# Altium integrated library TI_Logic_Specialty_Logic.IntLib: 2504 symbols (part 60 of 81)
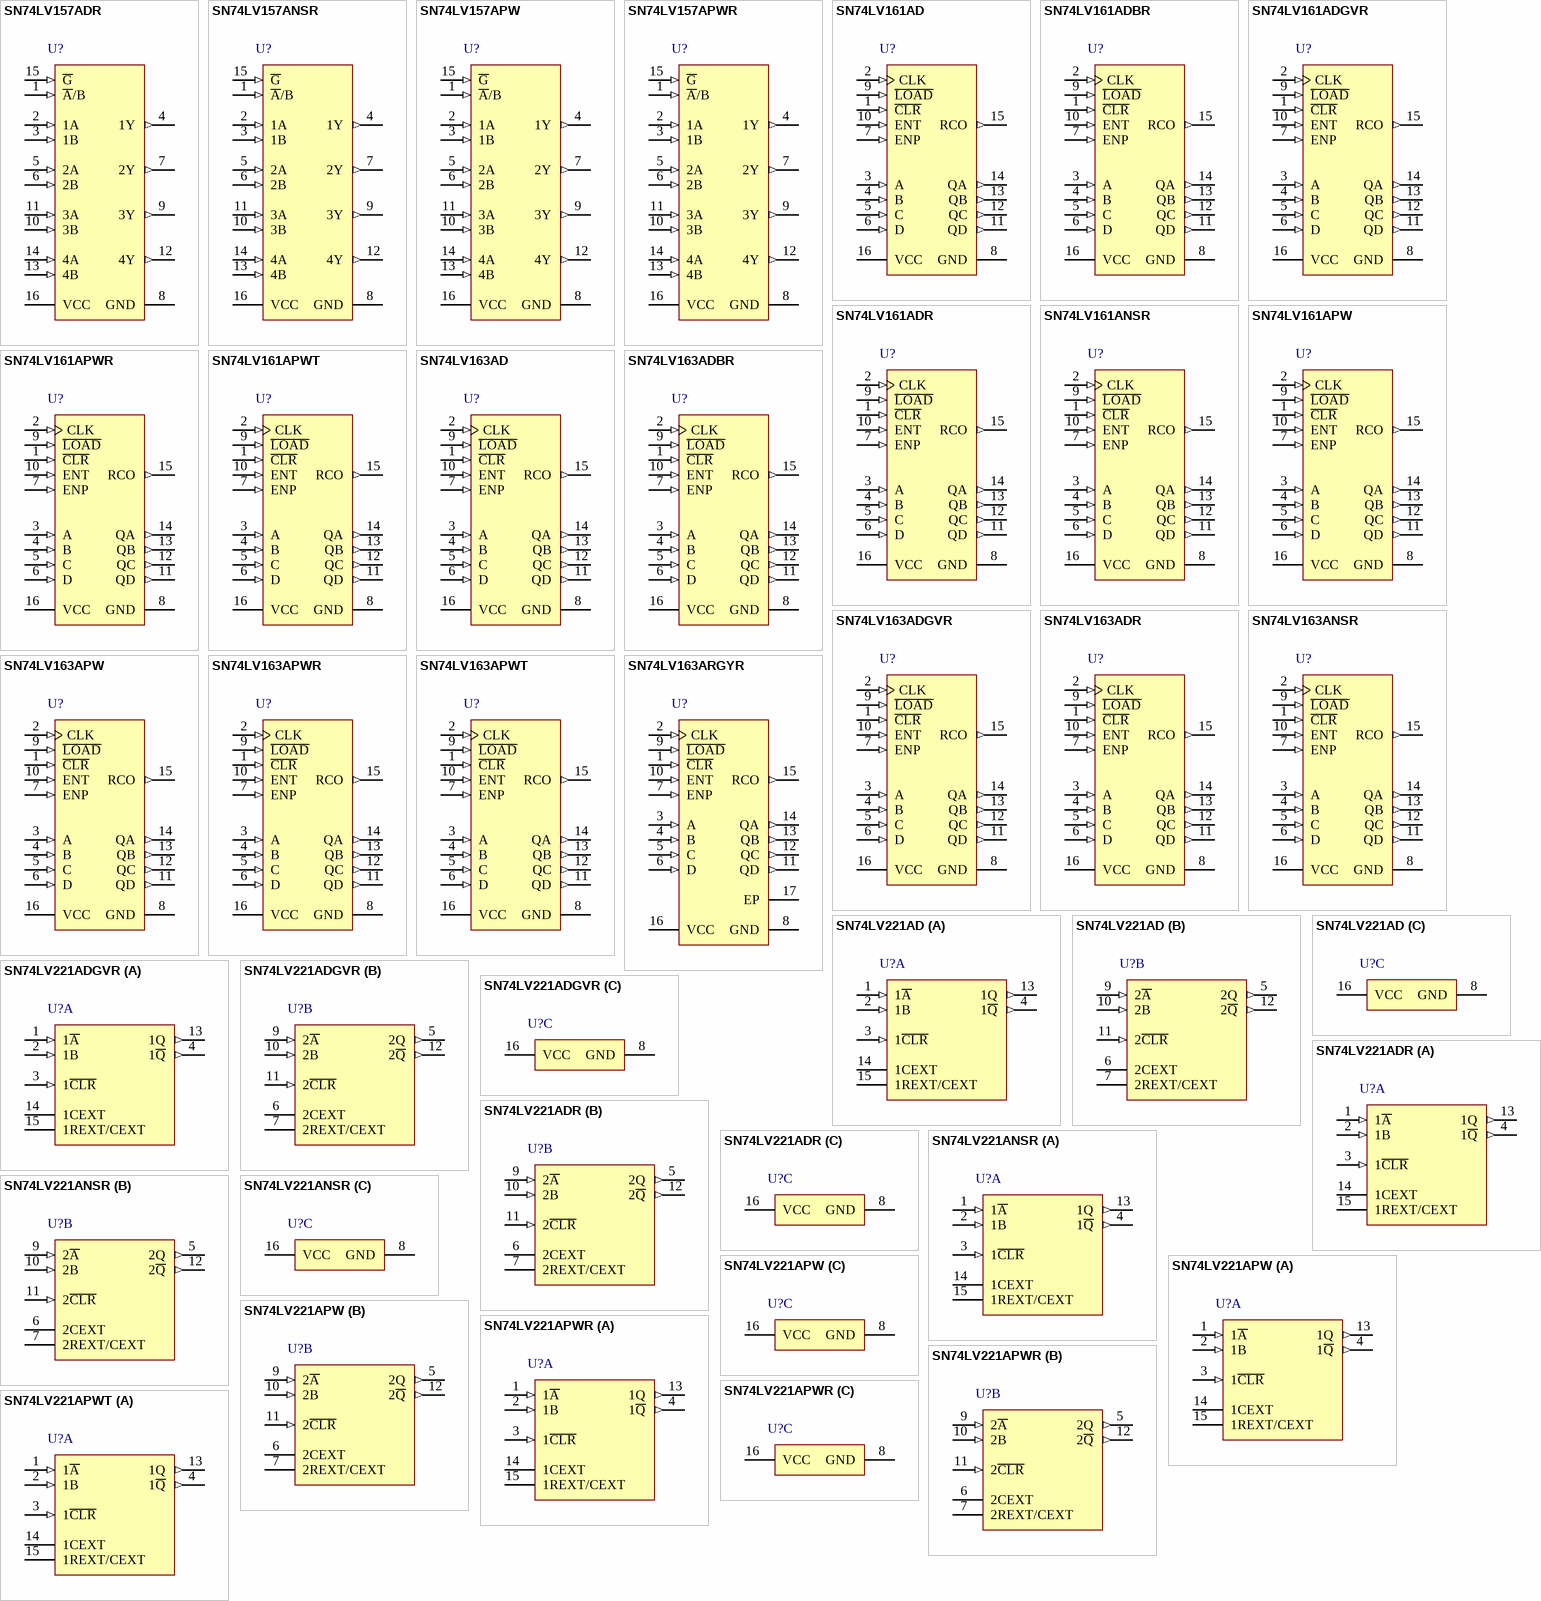
[diagram p163: symbols SN74LV157ADR to SN74LV221APWT]

## SN74LV161ADR
designator U?
4-Bit Synchronous Binary Counters, D0016A, LARGE T&R; Generic Part Number: SN74LV161A; Manufacturer: Texas Instruments; PartNumber: SN74LV161ADR; VCC(Min)(V): 2; VCC(Max)(V): 5.5; Output Type: CMOS; Inputs: 1; ICC @ Nom Voltage(Max)(mA): 0.02; Bits(#): 4; F @ Nom Voltage(Max)(Mhz): 70,115; Rating: Catalog; Technology Family: LV-A; Voltage(Nom)(V): 2.5,3.3,5; Schmitt Trigger: No; Output Drive (IOL/IOH)(Max)(mA): 12/-12; tpd @ Nom Voltage(Max)(ns): 11.5; DatasheetVersion: SCLS404F; PackageReference: D0016A; Supplier 1: Mouser; Supplier Part Number 1: 595-SN74LV161ADR; Supplier 2: Digi-Key; Supplier Part Number 2: 296-13227-2-ND; Supplier 3: Digi-Key; Supplier Part Number 3: 296-13227-1-ND; Supplier 4: Digi-Key; Supplier Part Number 4: 296-13227-6-ND; Function: Counter; Input Type: CMOS; Operating Temperature Range(C): -40 to 85; Type: Binary; Code_JEDEC: MS-012 variation AC; ComponentLink1Description: Manufacturer URL; ComponentLink1URL: http://www.ti.com/; ComponentLink2Description: Datasheet; ComponentLink2URL: http://www.ti.com/lit/ds/symlink/sn74lv161a.pdf; ComponentLink3Description: Package Specification; ComponentLink3URL: http://www.ti.com/lit/ml/mpds178g/mpds178g.pdf
footprint D0016A_N (SOIC, 16-Leads, Body 10x4mm, Pitch 1.27mm, IPC Medium Density)
footprint D0016A_M (SOIC, 16-Leads, Body 10x4mm, Pitch 1.27mm, IPC Low Density)
footprint D0016A_L (SOIC, 16-Leads, Body 10x4mm, Pitch 1.27mm, IPC High Density)
pins: 1 ~{CLR} (in), 2 CLK (in), 3 A (in), 4 B (in), 5 C (in), 6 D (in), 7 ENP (in), 8 GND (power), 9 ~{LOAD} (in), 10 ENT (in), 11 QD (out), 12 QC (out), 13 QB (out), 14 QA (out), 15 RCO (out), 16 VCC (power)

## SN74LV161ANSR
designator U?
4-Bit Synchronous Binary Counters, NS0016A, LARGE T&R; Generic Part Number: SN74LV161A; Manufacturer: Texas Instruments; PartNumber: SN74LV161ANSR; VCC(Min)(V): 2; VCC(Max)(V): 5.5; Output Type: CMOS; Inputs: 1; ICC @ Nom Voltage(Max)(mA): 0.02; Bits(#): 4; F @ Nom Voltage(Max)(Mhz): 70,115; Rating: Catalog; Technology Family: LV-A; Voltage(Nom)(V): 2.5,3.3,5; Schmitt Trigger: No; Output Drive (IOL/IOH)(Max)(mA): 12/-12; tpd @ Nom Voltage(Max)(ns): 11.5; DatasheetVersion: SCLS404F; PackageReference: NS0016A; Supplier 1: Mouser; Supplier Part Number 1: 595-SN74LV161ANSR; Supplier 2: Digi-Key; Supplier Part Number 2: 296-38805-2-ND; Supplier 3: Digi-Key; Supplier Part Number 3: 296-38805-1-ND; Supplier 4: Digi-Key; Supplier Part Number 4: 296-38805-6-ND; Function: Counter; Input Type: CMOS; Operating Temperature Range(C): -40 to 85; Type: Binary; ComponentLink1Description: Manufacturer URL; ComponentLink1URL: http://www.ti.com/; ComponentLink2Description: Datasheet; ComponentLink2URL: http://www.ti.com/lit/ds/symlink/sn74lv161a.pdf; ComponentLink3Description: Package Specification; ComponentLink3URL: http://www.ti.com/lit/ml/msop002a/msop002a.pdf
footprint NS0016A_N (SOIC,16-Leads,Body 10.5x5.6mm,Pitch 1.27mm,IPC Medium Density)
footprint NS0016A_M (SOIC,16-Leads,Body 10.5x5.6mm,Pitch 1.27mm,IPC Low Density)
footprint NS0016A_L (SOIC,16-Leads,Body 10.5x5.6mm,Pitch 1.27mm,IPC High Density)
pins: 1 ~{CLR} (in), 2 CLK (in), 3 A (in), 4 B (in), 5 C (in), 6 D (in), 7 ENP (in), 8 GND (power), 9 ~{LOAD} (in), 10 ENT (in), 11 QD (out), 12 QC (out), 13 QB (out), 14 QA (out), 15 RCO (out), 16 VCC (power)

## SN74LV161APW
designator U?
4-Bit Synchronous Binary Counters, PW0016A, TUBE; Generic Part Number: SN74LV161A; Manufacturer: Texas Instruments; PartNumber: SN74LV161APW; VCC(Min)(V): 2; VCC(Max)(V): 5.5; Output Type: CMOS; Inputs: 1; ICC @ Nom Voltage(Max)(mA): 0.02; Bits(#): 4; F @ Nom Voltage(Max)(Mhz): 70,115; Rating: Catalog; Technology Family: LV-A; Voltage(Nom)(V): 2.5,3.3,5; Schmitt Trigger: No; Output Drive (IOL/IOH)(Max)(mA): 12/-12; tpd @ Nom Voltage(Max)(ns): 11.5; DatasheetVersion: SCLS404F; PackageReference: PW0016A; Supplier 1: Mouser; Supplier Part Number 1: 595-SN74LV161APW; Supplier 2: Digi-Key; Supplier Part Number 2: 296-34042-5-ND; Function: Counter; Input Type: CMOS; Operating Temperature Range(C): -40 to 85; Type: Binary; Code_JEDEC: MO-153; ComponentLink1Description: Manufacturer URL; ComponentLink1URL: http://www.ti.com/; ComponentLink2Description: Datasheet; ComponentLink2URL: http://www.ti.com/lit/ds/symlink/sn74lv161a.pdf; ComponentLink3Description: Package Specification; ComponentLink3URL: http://www.ti.com/lit/ml/mpds361/mpds361.pdf
footprint PW0016A_N (SOP, 16-Leads, Body 5.1x4.5mm, Pitch 0.65mm, IPC Medium Density)
footprint PW0016A_M (SOP, 16-Leads, Body 5.1x4.5mm, Pitch 0.65mm, IPC Low Density)
footprint PW0016A_L (SOP, 16-Leads, Body 5.1x4.5mm, Pitch 0.65mm, IPC High Density)
pins: 1 ~{CLR} (in), 2 CLK (in), 3 A (in), 4 B (in), 5 C (in), 6 D (in), 7 ENP (in), 8 GND (power), 9 ~{LOAD} (in), 10 ENT (in), 11 QD (out), 12 QC (out), 13 QB (out), 14 QA (out), 15 RCO (out), 16 VCC (power)

## SN74LV161APWR
designator U?
4-Bit Synchronous Binary Counters, PW0016A, LARGE T&R; Generic Part Number: SN74LV161A; Manufacturer: Texas Instruments; PartNumber: SN74LV161APWR; VCC(Min)(V): 2; VCC(Max)(V): 5.5; Output Type: CMOS; Inputs: 1; ICC @ Nom Voltage(Max)(mA): 0.02; Bits(#): 4; F @ Nom Voltage(Max)(Mhz): 70,115; Rating: Catalog; Technology Family: LV-A; Voltage(Nom)(V): 2.5,3.3,5; Schmitt Trigger: No; Output Drive (IOL/IOH)(Max)(mA): 12/-12; tpd @ Nom Voltage(Max)(ns): 11.5; DatasheetVersion: SCLS404F; PackageReference: PW0016A; Supplier 1: Mouser; Supplier Part Number 1: 595-SN74LV161APWR; Supplier 2: Digi-Key; Supplier Part Number 2: 296-12344-2-ND; Supplier 3: Digi-Key; Supplier Part Number 3: 296-12344-1-ND; Supplier 4: Digi-Key; Supplier Part Number 4: 296-12344-6-ND; Function: Counter; Input Type: CMOS; Operating Temperature Range(C): -40 to 85; Type: Binary; Code_JEDEC: MO-153; ComponentLink1Description: Manufacturer URL; ComponentLink1URL: http://www.ti.com/; ComponentLink2Description: Datasheet; ComponentLink2URL: http://www.ti.com/lit/ds/symlink/sn74lv161a.pdf; ComponentLink3Description: Package Specification; ComponentLink3URL: http://www.ti.com/lit/ml/mpds361/mpds361.pdf
footprint PW0016A_N (SOP, 16-Leads, Body 5.1x4.5mm, Pitch 0.65mm, IPC Medium Density)
footprint PW0016A_M (SOP, 16-Leads, Body 5.1x4.5mm, Pitch 0.65mm, IPC Low Density)
footprint PW0016A_L (SOP, 16-Leads, Body 5.1x4.5mm, Pitch 0.65mm, IPC High Density)
pins: 1 ~{CLR} (in), 2 CLK (in), 3 A (in), 4 B (in), 5 C (in), 6 D (in), 7 ENP (in), 8 GND (power), 9 ~{LOAD} (in), 10 ENT (in), 11 QD (out), 12 QC (out), 13 QB (out), 14 QA (out), 15 RCO (out), 16 VCC (power)

## SN74LV161APWT
designator U?
4-Bit Synchronous Binary Counters, PW0016A, SMALL T&R; Generic Part Number: SN74LV161A; Manufacturer: Texas Instruments; PartNumber: SN74LV161APWT; VCC(Min)(V): 2; VCC(Max)(V): 5.5; Output Type: CMOS; Inputs: 1; ICC @ Nom Voltage(Max)(mA): 0.02; Bits(#): 4; F @ Nom Voltage(Max)(Mhz): 70,115; Rating: Catalog; Technology Family: LV-A; Voltage(Nom)(V): 2.5,3.3,5; Schmitt Trigger: No; Output Drive (IOL/IOH)(Max)(mA): 12/-12; tpd @ Nom Voltage(Max)(ns): 11.5; DatasheetVersion: SCLS404F; PackageReference: PW0016A; Supplier 1: Mouser; Supplier Part Number 1: 595-SN74LV161APWT; Supplier 2: Digi-Key; Supplier Part Number 2: SN74LV161APWT-ND; Function: Counter; Input Type: CMOS; Operating Temperature Range(C): -40 to 85; Type: Binary; Code_JEDEC: MO-153; ComponentLink1Description: Manufacturer URL; ComponentLink1URL: http://www.ti.com/; ComponentLink2Description: Datasheet; ComponentLink2URL: http://www.ti.com/lit/ds/symlink/sn74lv161a.pdf; ComponentLink3Description: Package Specification; ComponentLink3URL: http://www.ti.com/lit/ml/mpds361/mpds361.pdf
footprint PW0016A_N (SOP, 16-Leads, Body 5.1x4.5mm, Pitch 0.65mm, IPC Medium Density)
footprint PW0016A_M (SOP, 16-Leads, Body 5.1x4.5mm, Pitch 0.65mm, IPC Low Density)
footprint PW0016A_L (SOP, 16-Leads, Body 5.1x4.5mm, Pitch 0.65mm, IPC High Density)
pins: 1 ~{CLR} (in), 2 CLK (in), 3 A (in), 4 B (in), 5 C (in), 6 D (in), 7 ENP (in), 8 GND (power), 9 ~{LOAD} (in), 10 ENT (in), 11 QD (out), 12 QC (out), 13 QB (out), 14 QA (out), 15 RCO (out), 16 VCC (power)

## SN74LV163AD
designator U?
4-Bit Synchronous Binary Counters, D0016A, TUBE; Generic Part Number: SN74LV163A; Manufacturer: Texas Instruments; PartNumber: SN74LV163AD; VCC(Min)(V): 2; VCC(Max)(V): 5.5; Output Type: CMOS; Inputs: 1; ICC @ Nom Voltage(Max)(mA): 0.02; Bits(#): 4; F @ Nom Voltage(Max)(Mhz): 70,115; Rating: Catalog; Technology Family: LV-A; Voltage(Nom)(V): 2.5,3.3,5; Schmitt Trigger: No; Output Drive (IOL/IOH)(Max)(mA): 12/-12; tpd @ Nom Voltage(Max)(ns): 11.5; DatasheetVersion: SCLS405F; PackageReference: D0016A; Supplier 1: Mouser; Supplier Part Number 1: 595-SN74LV163AD; Supplier 2: Digi-Key; Supplier Part Number 2: 296-34043-5-ND; Function: Counter; Input Type: CMOS; Operating Temperature Range(C): -40 to 85; Type: Binary; Code_JEDEC: MS-012 variation AC; ComponentLink1Description: Manufacturer URL; ComponentLink1URL: http://www.ti.com/; ComponentLink2Description: Datasheet; ComponentLink2URL: http://www.ti.com/lit/ds/symlink/sn74lv163a.pdf; ComponentLink3Description: Package Specification; ComponentLink3URL: http://www.ti.com/lit/ml/mpds178g/mpds178g.pdf
footprint D0016A_N (SOIC, 16-Leads, Body 10x4mm, Pitch 1.27mm, IPC Medium Density)
footprint D0016A_M (SOIC, 16-Leads, Body 10x4mm, Pitch 1.27mm, IPC Low Density)
footprint D0016A_L (SOIC, 16-Leads, Body 10x4mm, Pitch 1.27mm, IPC High Density)
pins: 1 ~{CLR} (in), 2 CLK (in), 3 A (in), 4 B (in), 5 C (in), 6 D (in), 7 ENP (in), 8 GND (power), 9 ~{LOAD} (in), 10 ENT (in), 11 QD (out), 12 QC (out), 13 QB (out), 14 QA (out), 15 RCO (out), 16 VCC (power)

## SN74LV163ADBR
designator U?
4-Bit Synchronous Binary Counters, DB0016A, LARGE T&R; Generic Part Number: SN74LV163A; Manufacturer: Texas Instruments; PartNumber: SN74LV163ADBR; VCC(Min)(V): 2; VCC(Max)(V): 5.5; Output Type: CMOS; Inputs: 1; ICC @ Nom Voltage(Max)(mA): 0.02; Bits(#): 4; F @ Nom Voltage(Max)(Mhz): 70,115; Rating: Catalog; Technology Family: LV-A; Voltage(Nom)(V): 2.5,3.3,5; Schmitt Trigger: No; Output Drive (IOL/IOH)(Max)(mA): 12/-12; tpd @ Nom Voltage(Max)(ns): 11.5; DatasheetVersion: SCLS405F; PackageReference: DB0016A; Supplier 1: Mouser; Supplier Part Number 1: 595-SN74LV163ADBR; Supplier 2: Digi-Key; Supplier Part Number 2: 296-12345-2-ND; Supplier 3: Digi-Key; Supplier Part Number 3: 296-12345-1-ND; Supplier 4: Digi-Key; Supplier Part Number 4: 296-12345-6-ND; Function: Counter; Input Type: CMOS; Operating Temperature Range(C): -40 to 85; Type: Binary; Code_JEDEC: MO-150; ComponentLink1Description: Manufacturer URL; ComponentLink1URL: http://www.ti.com/; ComponentLink2Description: Datasheet; ComponentLink2URL: http://www.ti.com/lit/ds/symlink/sn74lv163a.pdf; ComponentLink3Description: Package Specification; ComponentLink3URL: http://www.ti.com/lit/ml/mpds507/mpds507.pdf
footprint DB0016A_N (SOP, 16-Leads, Body 5.6x6.5mm, Pitch 0.65mm, IPC Medium Density)
footprint DB0016A_M (SOP, 16-Leads, Body 5.6x6.5mm, Pitch 0.65mm, IPC Low Density)
footprint DB0016A_L (SOP, 16-Leads, Body 5.6x6.5mm, Pitch 0.65mm, IPC High Density)
pins: 1 ~{CLR} (in), 2 CLK (in), 3 A (in), 4 B (in), 5 C (in), 6 D (in), 7 ENP (in), 8 GND (power), 9 ~{LOAD} (in), 10 ENT (in), 11 QD (out), 12 QC (out), 13 QB (out), 14 QA (out), 15 RCO (out), 16 VCC (power)

## SN74LV163ADGVR
designator U?
4-Bit Synchronous Binary Counters, DGV0016A, LARGE T&R; Generic Part Number: SN74LV163A; Manufacturer: Texas Instruments; PartNumber: SN74LV163ADGVR; VCC(Min)(V): 2; VCC(Max)(V): 5.5; Output Type: CMOS; Inputs: 1; ICC @ Nom Voltage(Max)(mA): 0.02; Bits(#): 4; F @ Nom Voltage(Max)(Mhz): 70,115; Rating: Catalog; Technology Family: LV-A; Voltage(Nom)(V): 2.5,3.3,5; Schmitt Trigger: No; Output Drive (IOL/IOH)(Max)(mA): 12/-12; tpd @ Nom Voltage(Max)(ns): 11.5; DatasheetVersion: SCLS405F; PackageReference: DGV0016A; Supplier 1: Mouser; Supplier Part Number 1: 595-SN74LV163ADGVR; Supplier 2: Digi-Key; Supplier Part Number 2: 296-12346-2-ND; Supplier 3: Digi-Key; Supplier Part Number 3: 296-12346-1-ND; Supplier 4: Digi-Key; Supplier Part Number 4: 296-12346-6-ND; Function: Counter; Input Type: CMOS; Operating Temperature Range(C): -40 to 85; Type: Binary; Code_JEDEC: MO-194; ComponentLink1Description: Manufacturer URL; ComponentLink1URL: http://www.ti.com/; ComponentLink2Description: Datasheet; ComponentLink2URL: http://www.ti.com/lit/ds/symlink/sn74lv163a.pdf; ComponentLink3Description: Package Specification; ComponentLink3URL: http://www.ti.com/lit/ml/mpds006c/mpds006c.pdf
footprint DGV0016A_N (SOP, 16-Leads, Body 4.5x3.7mm, Pitch 0.4mm, IPC Medium Density)
footprint DGV0016A_M (SOP, 16-Leads, Body 4.5x3.7mm, Pitch 0.4mm, IPC Low Density)
footprint DGV0016A_L (SOP, 16-Leads, Body 4.5x3.7mm, Pitch 0.4mm, IPC High Density)
pins: 1 ~{CLR} (in), 2 CLK (in), 3 A (in), 4 B (in), 5 C (in), 6 D (in), 7 ENP (in), 8 GND (power), 9 ~{LOAD} (in), 10 ENT (in), 11 QD (out), 12 QC (out), 13 QB (out), 14 QA (out), 15 RCO (out), 16 VCC (power)

## SN74LV163ADR
designator U?
4-Bit Synchronous Binary Counters, D0016A, LARGE T&R; Generic Part Number: SN74LV163A; Manufacturer: Texas Instruments; PartNumber: SN74LV163ADR; VCC(Min)(V): 2; VCC(Max)(V): 5.5; Output Type: CMOS; Inputs: 1; ICC @ Nom Voltage(Max)(mA): 0.02; Bits(#): 4; F @ Nom Voltage(Max)(Mhz): 70,115; Rating: Catalog; Technology Family: LV-A; Voltage(Nom)(V): 2.5,3.3,5; Schmitt Trigger: No; Output Drive (IOL/IOH)(Max)(mA): 12/-12; tpd @ Nom Voltage(Max)(ns): 11.5; DatasheetVersion: SCLS405F; PackageReference: D0016A; Supplier 1: Mouser; Supplier Part Number 1: 595-SN74LV163ADR; Supplier 2: Digi-Key; Supplier Part Number 2: 296-11666-2-ND; Supplier 3: Digi-Key; Supplier Part Number 3: 296-11666-1-ND; Supplier 4: Digi-Key; Supplier Part Number 4: 296-11666-6-ND; Function: Counter; Input Type: CMOS; Operating Temperature Range(C): -40 to 85; Type: Binary; Code_JEDEC: MS-012 variation AC; ComponentLink1Description: Manufacturer URL; ComponentLink1URL: http://www.ti.com/; ComponentLink2Description: Datasheet; ComponentLink2URL: http://www.ti.com/lit/ds/symlink/sn74lv163a.pdf; ComponentLink3Description: Package Specification; ComponentLink3URL: http://www.ti.com/lit/ml/mpds178g/mpds178g.pdf
footprint D0016A_N (SOIC, 16-Leads, Body 10x4mm, Pitch 1.27mm, IPC Medium Density)
footprint D0016A_M (SOIC, 16-Leads, Body 10x4mm, Pitch 1.27mm, IPC Low Density)
footprint D0016A_L (SOIC, 16-Leads, Body 10x4mm, Pitch 1.27mm, IPC High Density)
pins: 1 ~{CLR} (in), 2 CLK (in), 3 A (in), 4 B (in), 5 C (in), 6 D (in), 7 ENP (in), 8 GND (power), 9 ~{LOAD} (in), 10 ENT (in), 11 QD (out), 12 QC (out), 13 QB (out), 14 QA (out), 15 RCO (out), 16 VCC (power)

## SN74LV163ANSR
designator U?
4-Bit Synchronous Binary Counters, NS0016A, LARGE T&R; Generic Part Number: SN74LV163A; Manufacturer: Texas Instruments; PartNumber: SN74LV163ANSR; VCC(Min)(V): 2; VCC(Max)(V): 5.5; Output Type: CMOS; Inputs: 1; ICC @ Nom Voltage(Max)(mA): 0.02; Bits(#): 4; F @ Nom Voltage(Max)(Mhz): 70,115; Rating: Catalog; Technology Family: LV-A; Voltage(Nom)(V): 2.5,3.3,5; Schmitt Trigger: No; Output Drive (IOL/IOH)(Max)(mA): 12/-12; tpd @ Nom Voltage(Max)(ns): 11.5; DatasheetVersion: SCLS405F; PackageReference: NS0016A; Supplier 1: Mouser; Supplier Part Number 1: 595-SN74LV163ANSR; Supplier 2: Digi-Key; Supplier Part Number 2: 296-28722-2-ND; Supplier 3: Digi-Key; Supplier Part Number 3: 296-28722-1-ND; Supplier 4: Digi-Key; Supplier Part Number 4: 296-28722-6-ND; Function: Counter; Input Type: CMOS; Operating Temperature Range(C): -40 to 85; Type: Binary; ComponentLink1Description: Manufacturer URL; ComponentLink1URL: http://www.ti.com/; ComponentLink2Description: Datasheet; ComponentLink2URL: http://www.ti.com/lit/ds/symlink/sn74lv163a.pdf; ComponentLink3Description: Package Specification; ComponentLink3URL: http://www.ti.com/lit/ml/msop002a/msop002a.pdf
footprint NS0016A_N (SOIC,16-Leads,Body 10.5x5.6mm,Pitch 1.27mm,IPC Medium Density)
footprint NS0016A_M (SOIC,16-Leads,Body 10.5x5.6mm,Pitch 1.27mm,IPC Low Density)
footprint NS0016A_L (SOIC,16-Leads,Body 10.5x5.6mm,Pitch 1.27mm,IPC High Density)
pins: 1 ~{CLR} (in), 2 CLK (in), 3 A (in), 4 B (in), 5 C (in), 6 D (in), 7 ENP (in), 8 GND (power), 9 ~{LOAD} (in), 10 ENT (in), 11 QD (out), 12 QC (out), 13 QB (out), 14 QA (out), 15 RCO (out), 16 VCC (power)

## SN74LV163APW
designator U?
4-Bit Synchronous Binary Counters, PW0016A, TUBE; Generic Part Number: SN74LV163A; Manufacturer: Texas Instruments; PartNumber: SN74LV163APW; VCC(Min)(V): 2; VCC(Max)(V): 5.5; Output Type: CMOS; Inputs: 1; ICC @ Nom Voltage(Max)(mA): 0.02; Bits(#): 4; F @ Nom Voltage(Max)(Mhz): 70,115; Rating: Catalog; Technology Family: LV-A; Voltage(Nom)(V): 2.5,3.3,5; Schmitt Trigger: No; Output Drive (IOL/IOH)(Max)(mA): 12/-12; tpd @ Nom Voltage(Max)(ns): 11.5; DatasheetVersion: SCLS405F; PackageReference: PW0016A; Supplier 1: Mouser; Supplier Part Number 1: 595-SN74LV163APW; Supplier 2: Digi-Key; Supplier Part Number 2: 296-34044-5-ND; Function: Counter; Input Type: CMOS; Operating Temperature Range(C): -40 to 85; Type: Binary; Code_JEDEC: MO-153; ComponentLink1Description: Manufacturer URL; ComponentLink1URL: http://www.ti.com/; ComponentLink2Description: Datasheet; ComponentLink2URL: http://www.ti.com/lit/ds/symlink/sn74lv163a.pdf; ComponentLink3Description: Package Specification; ComponentLink3URL: http://www.ti.com/lit/ml/mpds361/mpds361.pdf
footprint PW0016A_N (SOP, 16-Leads, Body 5.1x4.5mm, Pitch 0.65mm, IPC Medium Density)
footprint PW0016A_M (SOP, 16-Leads, Body 5.1x4.5mm, Pitch 0.65mm, IPC Low Density)
footprint PW0016A_L (SOP, 16-Leads, Body 5.1x4.5mm, Pitch 0.65mm, IPC High Density)
pins: 1 ~{CLR} (in), 2 CLK (in), 3 A (in), 4 B (in), 5 C (in), 6 D (in), 7 ENP (in), 8 GND (power), 9 ~{LOAD} (in), 10 ENT (in), 11 QD (out), 12 QC (out), 13 QB (out), 14 QA (out), 15 RCO (out), 16 VCC (power)

## SN74LV163APWR
designator U?
4-Bit Synchronous Binary Counters, PW0016A, LARGE T&R; Generic Part Number: SN74LV163A; Manufacturer: Texas Instruments; PartNumber: SN74LV163APWR; VCC(Min)(V): 2; VCC(Max)(V): 5.5; Output Type: CMOS; Inputs: 1; ICC @ Nom Voltage(Max)(mA): 0.02; Bits(#): 4; F @ Nom Voltage(Max)(Mhz): 70,115; Rating: Catalog; Technology Family: LV-A; Voltage(Nom)(V): 2.5,3.3,5; Schmitt Trigger: No; Output Drive (IOL/IOH)(Max)(mA): 12/-12; tpd @ Nom Voltage(Max)(ns): 11.5; DatasheetVersion: SCLS405F; PackageReference: PW0016A; Supplier 1: Mouser; Supplier Part Number 1: 595-SN74LV163APWR; Supplier 2: Digi-Key; Supplier Part Number 2: 296-12347-2-ND; Supplier 3: Digi-Key; Supplier Part Number 3: 296-12347-1-ND; Supplier 4: Digi-Key; Supplier Part Number 4: 296-12347-6-ND; Function: Counter; Input Type: CMOS; Operating Temperature Range(C): -40 to 85; Type: Binary; Code_JEDEC: MO-153; ComponentLink1Description: Manufacturer URL; ComponentLink1URL: http://www.ti.com/; ComponentLink2Description: Datasheet; ComponentLink2URL: http://www.ti.com/lit/ds/symlink/sn74lv163a.pdf; ComponentLink3Description: Package Specification; ComponentLink3URL: http://www.ti.com/lit/ml/mpds361/mpds361.pdf
footprint PW0016A_N (SOP, 16-Leads, Body 5.1x4.5mm, Pitch 0.65mm, IPC Medium Density)
footprint PW0016A_M (SOP, 16-Leads, Body 5.1x4.5mm, Pitch 0.65mm, IPC Low Density)
footprint PW0016A_L (SOP, 16-Leads, Body 5.1x4.5mm, Pitch 0.65mm, IPC High Density)
pins: 1 ~{CLR} (in), 2 CLK (in), 3 A (in), 4 B (in), 5 C (in), 6 D (in), 7 ENP (in), 8 GND (power), 9 ~{LOAD} (in), 10 ENT (in), 11 QD (out), 12 QC (out), 13 QB (out), 14 QA (out), 15 RCO (out), 16 VCC (power)

## SN74LV163APWT
designator U?
4-Bit Synchronous Binary Counters, PW0016A, SMALL T&R; Generic Part Number: SN74LV163A; Manufacturer: Texas Instruments; PartNumber: SN74LV163APWT; VCC(Min)(V): 2; VCC(Max)(V): 5.5; Output Type: CMOS; Inputs: 1; ICC @ Nom Voltage(Max)(mA): 0.02; Bits(#): 4; F @ Nom Voltage(Max)(Mhz): 70,115; Rating: Catalog; Technology Family: LV-A; Voltage(Nom)(V): 2.5,3.3,5; Schmitt Trigger: No; Output Drive (IOL/IOH)(Max)(mA): 12/-12; tpd @ Nom Voltage(Max)(ns): 11.5; DatasheetVersion: SCLS405F; PackageReference: PW0016A; Supplier 1: Mouser; Supplier Part Number 1: 595-SN74LV163APWT; Supplier 2: Digi-Key; Supplier Part Number 2: SN74LV163APWT-ND; Function: Counter; Input Type: CMOS; Operating Temperature Range(C): -40 to 85; Type: Binary; Code_JEDEC: MO-153; ComponentLink1Description: Manufacturer URL; ComponentLink1URL: http://www.ti.com/; ComponentLink2Description: Datasheet; ComponentLink2URL: http://www.ti.com/lit/ds/symlink/sn74lv163a.pdf; ComponentLink3Description: Package Specification; ComponentLink3URL: http://www.ti.com/lit/ml/mpds361/mpds361.pdf
footprint PW0016A_N (SOP, 16-Leads, Body 5.1x4.5mm, Pitch 0.65mm, IPC Medium Density)
footprint PW0016A_M (SOP, 16-Leads, Body 5.1x4.5mm, Pitch 0.65mm, IPC Low Density)
footprint PW0016A_L (SOP, 16-Leads, Body 5.1x4.5mm, Pitch 0.65mm, IPC High Density)
pins: 1 ~{CLR} (in), 2 CLK (in), 3 A (in), 4 B (in), 5 C (in), 6 D (in), 7 ENP (in), 8 GND (power), 9 ~{LOAD} (in), 10 ENT (in), 11 QD (out), 12 QC (out), 13 QB (out), 14 QA (out), 15 RCO (out), 16 VCC (power)

## SN74LV163ARGYR
designator U?
4-Bit Synchronous Binary Counters, RGY0016A, LARGE T&R; Generic Part Number: SN74LV163A; Manufacturer: Texas Instruments; PartNumber: SN74LV163ARGYR; VCC(Min)(V): 2; VCC(Max)(V): 5.5; Output Type: CMOS; Inputs: 1; ICC @ Nom Voltage(Max)(mA): 0.02; Bits(#): 4; F @ Nom Voltage(Max)(Mhz): 70,115; Rating: Catalog; Technology Family: LV-A; Voltage(Nom)(V): 2.5,3.3,5; Schmitt Trigger: No; Output Drive (IOL/IOH)(Max)(mA): 12/-12; tpd @ Nom Voltage(Max)(ns): 11.5; DatasheetVersion: SCLS405F; PackageReference: RGY0016A; Supplier 1: Mouser; Supplier Part Number 1: 595-SN74LV163ARGYR; Supplier 2: Digi-Key; Supplier Part Number 2: 296-13936-2-ND; Supplier 3: Digi-Key; Supplier Part Number 3: 296-13936-1-ND; Supplier 4: Digi-Key; Supplier Part Number 4: 296-13936-6-ND; Function: Counter; Input Type: CMOS; Operating Temperature Range(C): -40 to 85; Type: Binary; Code_JEDEC: MO-241; ComponentLink1Description: Manufacturer URL; ComponentLink1URL: http://www.ti.com/; ComponentLink2Description: Datasheet; ComponentLink2URL: http://www.ti.com/lit/ds/symlink/sn74lv163a.pdf; ComponentLink3Description: Package Specification; ComponentLink3URL: http://www.ti.com/lit/ml/mpqf115g/mpqf115g.pdf
footprint RGY0016A_V (QFN, 16-Leads, Body 4x3.5mm, Thermal Pad 2.55x2.05mm, TI Recommend)
pins: 1 ~{CLR} (in), 2 CLK (in), 3 A (in), 4 B (in), 5 C (in), 6 D (in), 7 ENP (in), 8 GND (power), 9 ~{LOAD} (in), 10 ENT (in), 11 QD (out), 12 QC (out), 13 QB (out), 14 QA (out), 15 RCO (out), 16 VCC (power), 17 EP

## SN74LV221AD
designator U?
DUAL MONOSTABLE MULTIVIBRATORS, D0016A, TUBE; Generic Part Number: SN74LV221A; Manufacturer: Texas Instruments; PartNumber: SN74LV221AD; VCC(Min)(V): 2; VCC(Max)(V): 5.5; Output Type: CMOS; ICC @ Nom Voltage(Max)(mA): 0.02; F @ Nom Voltage(Max)(Mhz): 70; Rating: Catalog; Technology Family: LV-A; Voltage(Nom)(V): 2.5,3.3,5; Schmitt Trigger: No; Output Drive (IOL/IOH)(Max)(mA): 50/-50; tpd @ Nom Voltage(Max)(ns): 44,29.5,17; DatasheetVersion: SCLS450G; PackageReference: D0016A; Supplier 1: Mouser; Supplier Part Number 1: 595-SN74LV221AD; Supplier 2: Digi-Key; Supplier Part Number 2: 296-3801-5-ND; Input Type: CMOS; Bits(#): 2; Operating Temperature Range(C): -40 to 85; Code_JEDEC: MS-012 variation AC; ComponentLink1Description: Manufacturer URL; ComponentLink1URL: http://www.ti.com/; ComponentLink2Description: Datasheet; ComponentLink2URL: http://www.ti.com/lit/ds/symlink/sn74lv221a.pdf; ComponentLink3Description: Package Specification; ComponentLink3URL: http://www.ti.com/lit/ml/mpds178g/mpds178g.pdf
footprint D0016A_N (SOIC, 16-Leads, Body 10x4mm, Pitch 1.27mm, IPC Medium Density)
footprint D0016A_M (SOIC, 16-Leads, Body 10x4mm, Pitch 1.27mm, IPC Low Density)
footprint D0016A_L (SOIC, 16-Leads, Body 10x4mm, Pitch 1.27mm, IPC High Density)
part A pins: 1 1~{A} (in), 2 1B (in), 3 1~{CLR} (in), 4 1~{Q} (out), 13 1Q (out), 14 1CEXT, 15 1REXT/CEXT
part B pins: 5 2Q (out), 6 2CEXT, 7 2REXT/CEXT, 9 2~{A} (in), 10 2B (in), 11 2~{CLR} (in), 12 2~{Q} (out)
part C pins: 8 GND (power), 16 VCC (power)

## SN74LV221ADGVR
designator U?
DUAL MONOSTABLE MULTIVIBRATORS, DGV0016A, LARGE T&R; Generic Part Number: SN74LV221A; Manufacturer: Texas Instruments; PartNumber: SN74LV221ADGVR; VCC(Min)(V): 2; VCC(Max)(V): 5.5; Output Type: CMOS; ICC @ Nom Voltage(Max)(mA): 0.02; F @ Nom Voltage(Max)(Mhz): 70; Rating: Catalog; Technology Family: LV-A; Voltage(Nom)(V): 2.5,3.3,5; Schmitt Trigger: No; Output Drive (IOL/IOH)(Max)(mA): 50/-50; tpd @ Nom Voltage(Max)(ns): 44,29.5,17; DatasheetVersion: SCLS450G; PackageReference: DGV0016A; Supplier 1: Mouser; Supplier Part Number 1: 595-SN74LV221ADGVR; Supplier 2: Digi-Key; Supplier Part Number 2: 296-23264-2-ND; Supplier 3: Digi-Key; Supplier Part Number 3: 296-23264-1-ND; Supplier 4: Digi-Key; Supplier Part Number 4: 296-23264-6-ND; Input Type: CMOS; Bits(#): 2; Operating Temperature Range(C): -40 to 85; Code_JEDEC: MO-194; ComponentLink1Description: Manufacturer URL; ComponentLink1URL: http://www.ti.com/; ComponentLink2Description: Datasheet; ComponentLink2URL: http://www.ti.com/lit/ds/symlink/sn74lv221a.pdf; ComponentLink3Description: Package Specification; ComponentLink3URL: http://www.ti.com/lit/ml/mpds006c/mpds006c.pdf
footprint DGV0016A_N (SOP, 16-Leads, Body 4.5x3.7mm, Pitch 0.4mm, IPC Medium Density)
footprint DGV0016A_M (SOP, 16-Leads, Body 4.5x3.7mm, Pitch 0.4mm, IPC Low Density)
footprint DGV0016A_L (SOP, 16-Leads, Body 4.5x3.7mm, Pitch 0.4mm, IPC High Density)
part A pins: 1 1~{A} (in), 2 1B (in), 3 1~{CLR} (in), 4 1~{Q} (out), 13 1Q (out), 14 1CEXT, 15 1REXT/CEXT
part B pins: 5 2Q (out), 6 2CEXT, 7 2REXT/CEXT, 9 2~{A} (in), 10 2B (in), 11 2~{CLR} (in), 12 2~{Q} (out)
part C pins: 8 GND (power), 16 VCC (power)

## SN74LV221ADR
designator U?
DUAL MONOSTABLE MULTIVIBRATORS, D0016A, LARGE T&R; Generic Part Number: SN74LV221A; Manufacturer: Texas Instruments; PartNumber: SN74LV221ADR; VCC(Min)(V): 2; VCC(Max)(V): 5.5; Output Type: CMOS; ICC @ Nom Voltage(Max)(mA): 0.02; F @ Nom Voltage(Max)(Mhz): 70; Rating: Catalog; Technology Family: LV-A; Voltage(Nom)(V): 2.5,3.3,5; Schmitt Trigger: No; Output Drive (IOL/IOH)(Max)(mA): 50/-50; tpd @ Nom Voltage(Max)(ns): 44,29.5,17; DatasheetVersion: SCLS450G; PackageReference: D0016A; Supplier 1: Mouser; Supplier Part Number 1: 595-SN74LV221ADR; Supplier 2: Digi-Key; Supplier Part Number 2: 296-3801-2-ND; Supplier 3: Digi-Key; Supplier Part Number 3: 296-3801-1-ND; Supplier 4: Digi-Key; Supplier Part Number 4: 296-3801-6-ND; Input Type: CMOS; Bits(#): 2; Operating Temperature Range(C): -40 to 85; Code_JEDEC: MS-012 variation AC; ComponentLink1Description: Manufacturer URL; ComponentLink1URL: http://www.ti.com/; ComponentLink2Description: Datasheet; ComponentLink2URL: http://www.ti.com/lit/ds/symlink/sn74lv221a.pdf; ComponentLink3Description: Package Specification; ComponentLink3URL: http://www.ti.com/lit/ml/mpds178g/mpds178g.pdf
footprint D0016A_N (SOIC, 16-Leads, Body 10x4mm, Pitch 1.27mm, IPC Medium Density)
footprint D0016A_M (SOIC, 16-Leads, Body 10x4mm, Pitch 1.27mm, IPC Low Density)
footprint D0016A_L (SOIC, 16-Leads, Body 10x4mm, Pitch 1.27mm, IPC High Density)
part A pins: 1 1~{A} (in), 2 1B (in), 3 1~{CLR} (in), 4 1~{Q} (out), 13 1Q (out), 14 1CEXT, 15 1REXT/CEXT
part B pins: 5 2Q (out), 6 2CEXT, 7 2REXT/CEXT, 9 2~{A} (in), 10 2B (in), 11 2~{CLR} (in), 12 2~{Q} (out)
part C pins: 8 GND (power), 16 VCC (power)

## SN74LV221ANSR
designator U?
DUAL MONOSTABLE MULTIVIBRATORS, NS0016A, LARGE T&R; Generic Part Number: SN74LV221A; Manufacturer: Texas Instruments; PartNumber: SN74LV221ANSR; VCC(Min)(V): 2; VCC(Max)(V): 5.5; Output Type: CMOS; ICC @ Nom Voltage(Max)(mA): 0.02; F @ Nom Voltage(Max)(Mhz): 70; Rating: Catalog; Technology Family: LV-A; Voltage(Nom)(V): 2.5,3.3,5; Schmitt Trigger: No; Output Drive (IOL/IOH)(Max)(mA): 50/-50; tpd @ Nom Voltage(Max)(ns): 44,29.5,17; DatasheetVersion: SCLS450G; PackageReference: NS0016A; Supplier 1: Mouser; Supplier Part Number 1: 595-SN74LV221ANSR; Supplier 2: Digi-Key; Supplier Part Number 2: 296-12473-2-ND; Supplier 3: Digi-Key; Supplier Part Number 3: 296-12473-1-ND; Supplier 4: Digi-Key; Supplier Part Number 4: 296-12473-6-ND; Input Type: CMOS; Bits(#): 2; Operating Temperature Range(C): -40 to 85; ComponentLink1Description: Manufacturer URL; ComponentLink1URL: http://www.ti.com/; ComponentLink2Description: Datasheet; ComponentLink2URL: http://www.ti.com/lit/ds/symlink/sn74lv221a.pdf; ComponentLink3Description: Package Specification; ComponentLink3URL: http://www.ti.com/lit/ml/msop002a/msop002a.pdf
footprint NS0016A_N (SOIC,16-Leads,Body 10.5x5.6mm,Pitch 1.27mm,IPC Medium Density)
footprint NS0016A_M (SOIC,16-Leads,Body 10.5x5.6mm,Pitch 1.27mm,IPC Low Density)
footprint NS0016A_L (SOIC,16-Leads,Body 10.5x5.6mm,Pitch 1.27mm,IPC High Density)
part A pins: 1 1~{A} (in), 2 1B (in), 3 1~{CLR} (in), 4 1~{Q} (out), 13 1Q (out), 14 1CEXT, 15 1REXT/CEXT
part B pins: 5 2Q (out), 6 2CEXT, 7 2REXT/CEXT, 9 2~{A} (in), 10 2B (in), 11 2~{CLR} (in), 12 2~{Q} (out)
part C pins: 8 GND (power), 16 VCC (power)

## SN74LV221APW
designator U?
DUAL MONOSTABLE MULTIVIBRATORS, PW0016A, TUBE; Generic Part Number: SN74LV221A; Manufacturer: Texas Instruments; PartNumber: SN74LV221APW; VCC(Min)(V): 2; VCC(Max)(V): 5.5; Output Type: CMOS; ICC @ Nom Voltage(Max)(mA): 0.02; F @ Nom Voltage(Max)(Mhz): 70; Rating: Catalog; Technology Family: LV-A; Voltage(Nom)(V): 2.5,3.3,5; Schmitt Trigger: No; Output Drive (IOL/IOH)(Max)(mA): 50/-50; tpd @ Nom Voltage(Max)(ns): 44,29.5,17; DatasheetVersion: SCLS450G; PackageReference: PW0016A; Supplier 1: Mouser; Supplier Part Number 1: 595-SN74LV221APW; Supplier 2: Digi-Key; Supplier Part Number 2: SN74LV221APW-ND; Input Type: CMOS; Bits(#): 2; Operating Temperature Range(C): -40 to 85; Code_JEDEC: MO-153; ComponentLink1Description: Manufacturer URL; ComponentLink1URL: http://www.ti.com/; ComponentLink2Description: Datasheet; ComponentLink2URL: http://www.ti.com/lit/ds/symlink/sn74lv221a.pdf; ComponentLink3Description: Package Specification; ComponentLink3URL: http://www.ti.com/lit/ml/mpds361/mpds361.pdf
footprint PW0016A_N (SOP, 16-Leads, Body 5.1x4.5mm, Pitch 0.65mm, IPC Medium Density)
footprint PW0016A_M (SOP, 16-Leads, Body 5.1x4.5mm, Pitch 0.65mm, IPC Low Density)
footprint PW0016A_L (SOP, 16-Leads, Body 5.1x4.5mm, Pitch 0.65mm, IPC High Density)
part A pins: 1 1~{A} (in), 2 1B (in), 3 1~{CLR} (in), 4 1~{Q} (out), 13 1Q (out), 14 1CEXT, 15 1REXT/CEXT
part B pins: 5 2Q (out), 6 2CEXT, 7 2REXT/CEXT, 9 2~{A} (in), 10 2B (in), 11 2~{CLR} (in), 12 2~{Q} (out)
part C pins: 8 GND (power), 16 VCC (power)

## SN74LV221APWR
designator U?
DUAL MONOSTABLE MULTIVIBRATORS, PW0016A, LARGE T&R; Generic Part Number: SN74LV221A; Manufacturer: Texas Instruments; PartNumber: SN74LV221APWR; VCC(Min)(V): 2; VCC(Max)(V): 5.5; Output Type: CMOS; ICC @ Nom Voltage(Max)(mA): 0.02; F @ Nom Voltage(Max)(Mhz): 70; Rating: Catalog; Technology Family: LV-A; Voltage(Nom)(V): 2.5,3.3,5; Schmitt Trigger: No; Output Drive (IOL/IOH)(Max)(mA): 50/-50; tpd @ Nom Voltage(Max)(ns): 44,29.5,17; DatasheetVersion: SCLS450G; PackageReference: PW0016A; Supplier 1: Mouser; Supplier Part Number 1: 595-SN74LV221APWR; Supplier 2: Digi-Key; Supplier Part Number 2: 296-31869-2-ND; Supplier 3: Digi-Key; Supplier Part Number 3: 296-31869-1-ND; Supplier 4: Digi-Key; Supplier Part Number 4: 296-31869-6-ND; Input Type: CMOS; Bits(#): 2; Operating Temperature Range(C): -40 to 85; Code_JEDEC: MO-153; ComponentLink1Description: Manufacturer URL; ComponentLink1URL: http://www.ti.com/; ComponentLink2Description: Datasheet; ComponentLink2URL: http://www.ti.com/lit/ds/symlink/sn74lv221a.pdf; ComponentLink3Description: Package Specification; ComponentLink3URL: http://www.ti.com/lit/ml/mpds361/mpds361.pdf
footprint PW0016A_N (SOP, 16-Leads, Body 5.1x4.5mm, Pitch 0.65mm, IPC Medium Density)
footprint PW0016A_M (SOP, 16-Leads, Body 5.1x4.5mm, Pitch 0.65mm, IPC Low Density)
footprint PW0016A_L (SOP, 16-Leads, Body 5.1x4.5mm, Pitch 0.65mm, IPC High Density)
part A pins: 1 1~{A} (in), 2 1B (in), 3 1~{CLR} (in), 4 1~{Q} (out), 13 1Q (out), 14 1CEXT, 15 1REXT/CEXT
part B pins: 5 2Q (out), 6 2CEXT, 7 2REXT/CEXT, 9 2~{A} (in), 10 2B (in), 11 2~{CLR} (in), 12 2~{Q} (out)
part C pins: 8 GND (power), 16 VCC (power)

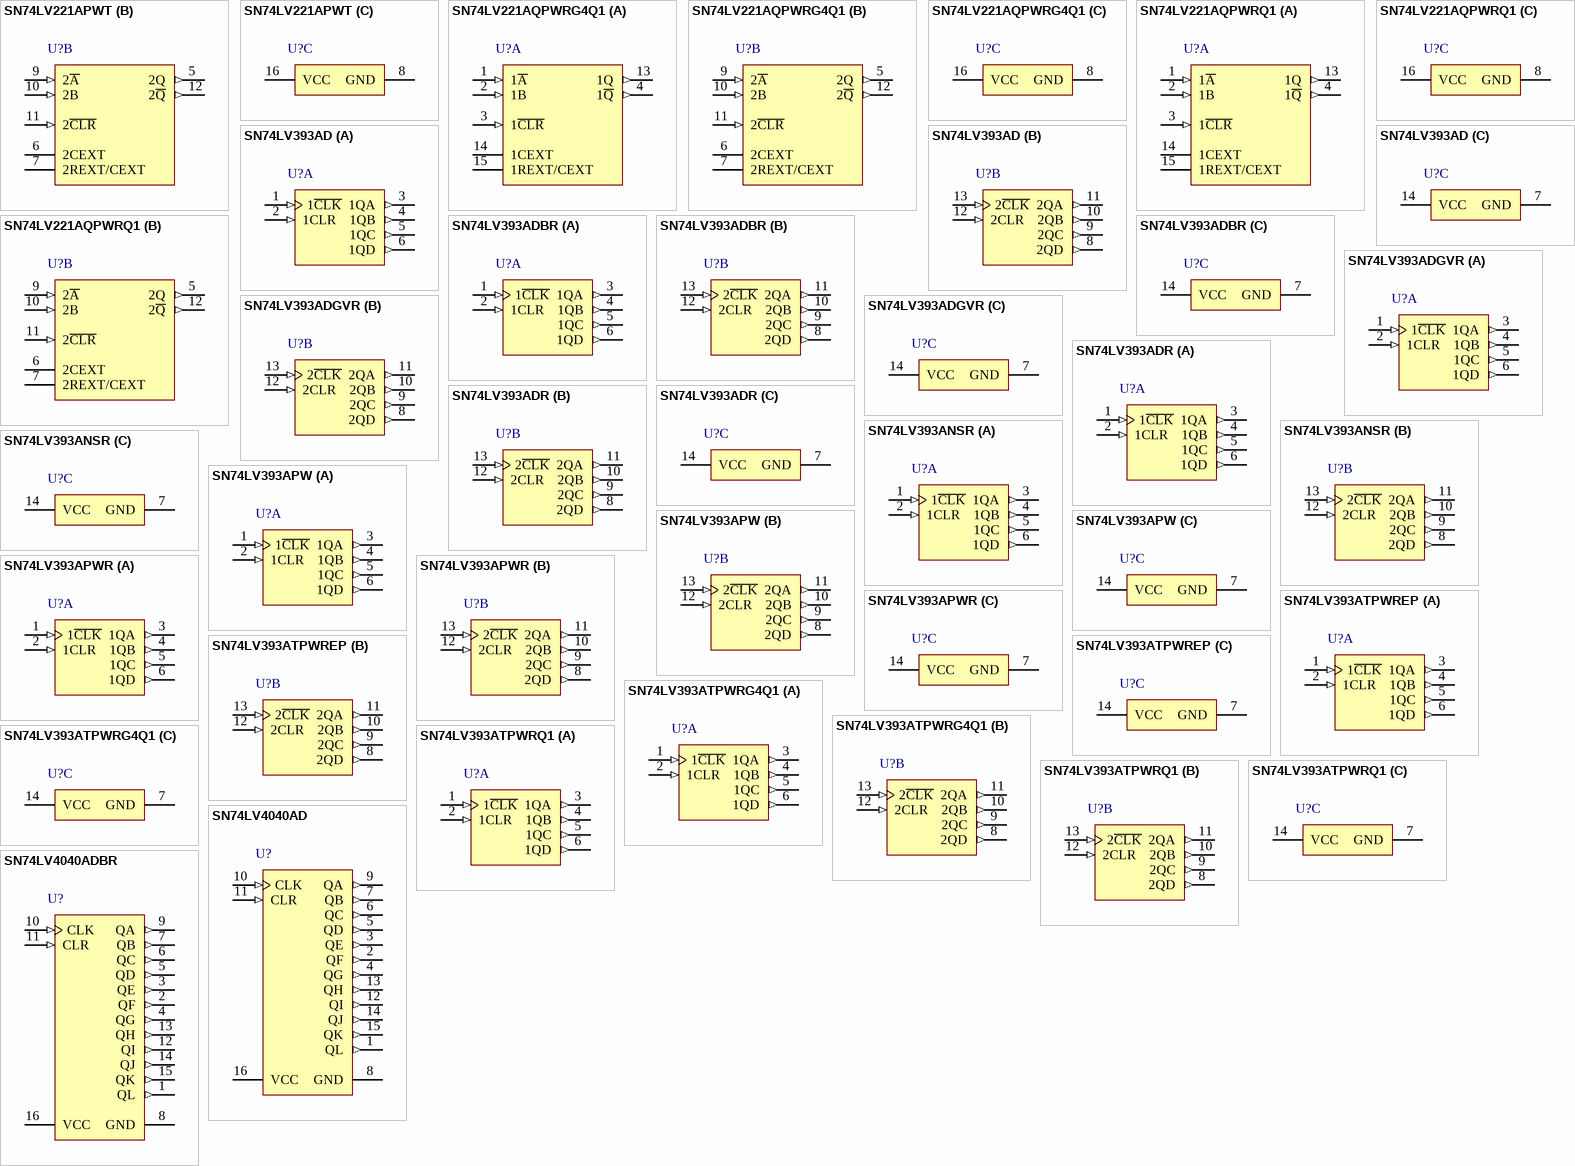
[diagram p76: symbols SN74LV221APWT to SN74LV4040ADBR]

## SN74LV221APWT
designator U?
DUAL MONOSTABLE MULTIVIBRATORS, PW0016A, SMALL T&R; Generic Part Number: SN74LV221A; Manufacturer: Texas Instruments; PartNumber: SN74LV221APWT; VCC(Min)(V): 2; VCC(Max)(V): 5.5; Output Type: CMOS; ICC @ Nom Voltage(Max)(mA): 0.02; F @ Nom Voltage(Max)(Mhz): 70; Rating: Catalog; Technology Family: LV-A; Voltage(Nom)(V): 2.5,3.3,5; Schmitt Trigger: No; Output Drive (IOL/IOH)(Max)(mA): 50/-50; tpd @ Nom Voltage(Max)(ns): 44,29.5,17; DatasheetVersion: SCLS450G; PackageReference: PW0016A; Supplier 1: Mouser; Supplier Part Number 1: 595-SN74LV221APWT; Supplier 2: Digi-Key; Supplier Part Number 2: 296-28630-2-ND; Supplier 3: Digi-Key; Supplier Part Number 3: 296-28630-1-ND; Supplier 4: Digi-Key; Supplier Part Number 4: 296-28630-6-ND; Input Type: CMOS; Bits(#): 2; Operating Temperature Range(C): -40 to 85; Code_JEDEC: MO-153; ComponentLink1Description: Manufacturer URL; ComponentLink1URL: http://www.ti.com/; ComponentLink2Description: Datasheet; ComponentLink2URL: http://www.ti.com/lit/ds/symlink/sn74lv221a.pdf; ComponentLink3Description: Package Specification; ComponentLink3URL: http://www.ti.com/lit/ml/mpds361/mpds361.pdf
footprint PW0016A_N (SOP, 16-Leads, Body 5.1x4.5mm, Pitch 0.65mm, IPC Medium Density)
footprint PW0016A_M (SOP, 16-Leads, Body 5.1x4.5mm, Pitch 0.65mm, IPC Low Density)
footprint PW0016A_L (SOP, 16-Leads, Body 5.1x4.5mm, Pitch 0.65mm, IPC High Density)
part A pins: 1 1~{A} (in), 2 1B (in), 3 1~{CLR} (in), 4 1~{Q} (out), 13 1Q (out), 14 1CEXT, 15 1REXT/CEXT
part B pins: 5 2Q (out), 6 2CEXT, 7 2REXT/CEXT, 9 2~{A} (in), 10 2B (in), 11 2~{CLR} (in), 12 2~{Q} (out)
part C pins: 8 GND (power), 16 VCC (power)

## SN74LV221AQPWRG4Q1
designator U?
Automotive Catalog Dual Monostable Multivibrators, PW0016A, LARGE T&R; Generic Part Number: SN74LV221A-Q1; Manufacturer: Texas Instruments; PartNumber: SN74LV221AQPWRG4Q1; VCC(Min)(V): 2; VCC(Max)(V): 5.5; Output Type: CMOS; ICC @ Nom Voltage(Max)(mA): 0.02; F @ Nom Voltage(Max)(Mhz): 70; Technology Family: LV-A; Voltage(Nom)(V): 3.3,5; Schmitt Trigger: No; Output Drive (IOL/IOH)(Max)(mA): 50/-50; tpd @ Nom Voltage(Max)(ns): 29.5,17; DatasheetVersion: SCLS692A; PackageReference: PW0016A; Supplier 1: Mouser; Supplier Part Number 1: 595-74LV221AQPWRG4Q1; Supplier 2: Digi-Key; Supplier Part Number 2: 296-29240-2-ND; Supplier 3: Digi-Key; Supplier Part Number 3: 296-29240-1-ND; Supplier 4: Digi-Key; Supplier Part Number 4: 296-29240-6-ND; Input Type: CMOS; Bits(#): 2; Operating Temperature Range(C): -40 to 125; Rating: Automotive; Code_JEDEC: MO-153; ComponentLink1Description: Manufacturer URL; ComponentLink1URL: http://www.ti.com/; ComponentLink2Description: Datasheet; ComponentLink2URL: http://www.ti.com/lit/ds/symlink/sn74lv221a-q1.pdf; ComponentLink3Description: Package Specification; ComponentLink3URL: http://www.ti.com/lit/ml/mpds361/mpds361.pdf
footprint PW0016A_N (SOP, 16-Leads, Body 5.1x4.5mm, Pitch 0.65mm, IPC Medium Density)
footprint PW0016A_M (SOP, 16-Leads, Body 5.1x4.5mm, Pitch 0.65mm, IPC Low Density)
footprint PW0016A_L (SOP, 16-Leads, Body 5.1x4.5mm, Pitch 0.65mm, IPC High Density)
part A pins: 1 1~{A} (in), 2 1B (in), 3 1~{CLR} (in), 4 1~{Q} (out), 13 1Q (out), 14 1CEXT, 15 1REXT/CEXT
part B pins: 5 2Q (out), 6 2CEXT, 7 2REXT/CEXT, 9 2~{A} (in), 10 2B (in), 11 2~{CLR} (in), 12 2~{Q} (out)
part C pins: 8 GND (power), 16 VCC (power)

## SN74LV221AQPWRQ1
designator U?
Automotive Catalog Dual Monostable Multivibrators, PW0016A, LARGE T&R; Generic Part Number: SN74LV221A-Q1; Manufacturer: Texas Instruments; PartNumber: SN74LV221AQPWRQ1; VCC(Min)(V): 2; VCC(Max)(V): 5.5; Output Type: CMOS; ICC @ Nom Voltage(Max)(mA): 0.02; F @ Nom Voltage(Max)(Mhz): 70; Technology Family: LV-A; Voltage(Nom)(V): 3.3,5; Schmitt Trigger: No; Output Drive (IOL/IOH)(Max)(mA): 50/-50; tpd @ Nom Voltage(Max)(ns): 29.5,17; DatasheetVersion: SCLS692A; PackageReference: PW0016A; Supplier 1: Mouser; Supplier Part Number 1: 595-SN74LV221AQPWRQ1; Supplier 2: Digi-Key; Supplier Part Number 2: SN74LV221AQPWRQ1-ND; Input Type: CMOS; Bits(#): 2; Operating Temperature Range(C): -40 to 125; Rating: Automotive; Code_JEDEC: MO-153; ComponentLink1Description: Manufacturer URL; ComponentLink1URL: http://www.ti.com/; ComponentLink2Description: Datasheet; ComponentLink2URL: http://www.ti.com/lit/ds/symlink/sn74lv221a-q1.pdf; ComponentLink3Description: Package Specification; ComponentLink3URL: http://www.ti.com/lit/ml/mpds361/mpds361.pdf
footprint PW0016A_N (SOP, 16-Leads, Body 5.1x4.5mm, Pitch 0.65mm, IPC Medium Density)
footprint PW0016A_M (SOP, 16-Leads, Body 5.1x4.5mm, Pitch 0.65mm, IPC Low Density)
footprint PW0016A_L (SOP, 16-Leads, Body 5.1x4.5mm, Pitch 0.65mm, IPC High Density)
part A pins: 1 1~{A} (in), 2 1B (in), 3 1~{CLR} (in), 4 1~{Q} (out), 13 1Q (out), 14 1CEXT, 15 1REXT/CEXT
part B pins: 5 2Q (out), 6 2CEXT, 7 2REXT/CEXT, 9 2~{A} (in), 10 2B (in), 11 2~{CLR} (in), 12 2~{Q} (out)
part C pins: 8 GND (power), 16 VCC (power)

## SN74LV393AD
designator U?
Dual 4-Bit Binary Counters, D0014A, TUBE; Generic Part Number: SN74LV393A; Manufacturer: Texas Instruments; PartNumber: SN74LV393AD; VCC(Min)(V): 2; VCC(Max)(V): 5.5; Output Type: CMOS; Inputs: 1; ICC @ Nom Voltage(Max)(mA): 0.02; Bits(#): 4; F @ Nom Voltage(Max)(Mhz): 65,105; Rating: Catalog; Technology Family: LV-A; Voltage(Nom)(V): 2.5,3.3,5; Schmitt Trigger: No; Output Drive (IOL/IOH)(Max)(mA): 12/-12; tpd @ Nom Voltage(Max)(ns): 16.5; DatasheetVersion: SCLS457D; PackageReference: D0014A; Supplier 1: Mouser; Supplier Part Number 1: 595-SN74LV393AD; Supplier 2: Digi-Key; Supplier Part Number 2: 296-34055-5-ND; Function: Counter; Input Type: CMOS; Operating Temperature Range(C): -40 to 85; Type: Binary; Code_JEDEC: MS-012; ComponentLink1Description: Manufacturer URL; ComponentLink1URL: http://www.ti.com/; ComponentLink2Description: Datasheet; ComponentLink2URL: http://www.ti.com/lit/ds/symlink/sn74lv393a.pdf; ComponentLink3Description: Package Specification; ComponentLink3URL: http://www.ti.com/lit/ml/mpds177g/mpds177g.pdf
footprint D0014A_N (SOIC, 14-Leads, Body 8.75x4mm, Pitch 1.27mm, IPC Medium Density)
footprint D0014A_M (SOIC, 14-Leads, Body 8.75x4mm, Pitch 1.27mm, IPC Low Density)
footprint D0014A_L (SOIC, 14-Leads, Body 8.75x4mm, Pitch 1.27mm, IPC High Density)
part A pins: 1 1~{CLK} (in), 2 1CLR (in), 3 1QA (out), 4 1QB (out), 5 1QC (out), 6 1QD (out)
part B pins: 8 2QD (out), 9 2QC (out), 10 2QB (out), 11 2QA (out), 12 2CLR (in), 13 2~{CLK} (in)
part C pins: 7 GND (power), 14 VCC (power)

## SN74LV393ADBR
designator U?
Dual 4-Bit Binary Counters, DB0014A, LARGE T&R; Generic Part Number: SN74LV393A; Manufacturer: Texas Instruments; PartNumber: SN74LV393ADBR; VCC(Min)(V): 2; VCC(Max)(V): 5.5; Output Type: CMOS; Inputs: 1; ICC @ Nom Voltage(Max)(mA): 0.02; Bits(#): 4; F @ Nom Voltage(Max)(Mhz): 65,105; Rating: Catalog; Technology Family: LV-A; Voltage(Nom)(V): 2.5,3.3,5; Schmitt Trigger: No; Output Drive (IOL/IOH)(Max)(mA): 12/-12; tpd @ Nom Voltage(Max)(ns): 16.5; DatasheetVersion: SCLS457D; PackageReference: DB0014A; Supplier 1: Mouser; Supplier Part Number 1: 595-SN74LV393ADBR; Supplier 2: Digi-Key; Supplier Part Number 2: 296-12351-2-ND; Supplier 3: Digi-Key; Supplier Part Number 3: 296-12351-1-ND; Supplier 4: Digi-Key; Supplier Part Number 4: 296-12351-6-ND; Function: Counter; Input Type: CMOS; Operating Temperature Range(C): -40 to 85; Type: Binary; Code_JEDEC: MO-150; ComponentLink1Description: Manufacturer URL; ComponentLink1URL: http://www.ti.com/; ComponentLink2Description: Datasheet; ComponentLink2URL: http://www.ti.com/lit/ds/symlink/sn74lv393a.pdf; ComponentLink3Description: Package Specification; ComponentLink3URL: http://www.ti.com/lit/ml/msso002e/msso002e.pdf
footprint DB0014A_N (SOP, 14-Leads, Body 5.6x6.5mm, Pitch 0.65mm, IPC Medium Density)
footprint DB0014A_M (SOP, 14-Leads, Body 5.6x6.5mm, Pitch 0.65mm, IPC Low Density)
footprint DB0014A_L (SOP, 14-Leads, Body 5.6x6.5mm, Pitch 0.65mm, IPC High Density)
part A pins: 1 1~{CLK} (in), 2 1CLR (in), 3 1QA (out), 4 1QB (out), 5 1QC (out), 6 1QD (out)
part B pins: 8 2QD (out), 9 2QC (out), 10 2QB (out), 11 2QA (out), 12 2CLR (in), 13 2~{CLK} (in)
part C pins: 7 GND (power), 14 VCC (power)

## SN74LV393ADGVR
designator U?
Dual 4-Bit Binary Counters, DGV0014A, LARGE T&R; Generic Part Number: SN74LV393A; Manufacturer: Texas Instruments; PartNumber: SN74LV393ADGVR; VCC(Min)(V): 2; VCC(Max)(V): 5.5; Output Type: CMOS; Inputs: 1; ICC @ Nom Voltage(Max)(mA): 0.02; Bits(#): 4; F @ Nom Voltage(Max)(Mhz): 65,105; Rating: Catalog; Technology Family: LV-A; Voltage(Nom)(V): 2.5,3.3,5; Schmitt Trigger: No; Output Drive (IOL/IOH)(Max)(mA): 12/-12; tpd @ Nom Voltage(Max)(ns): 16.5; DatasheetVersion: SCLS457D; PackageReference: DGV0014A; Supplier 1: Mouser; Supplier Part Number 1: 595-SN74LV393ADGVR; Supplier 2: Digi-Key; Supplier Part Number 2: 296-13233-2-ND; Supplier 3: Digi-Key; Supplier Part Number 3: 296-13233-1-ND; Supplier 4: Digi-Key; Supplier Part Number 4: 296-13233-6-ND; Function: Counter; Input Type: CMOS; Operating Temperature Range(C): -40 to 85; Type: Binary; Code_JEDEC: MO-194; ComponentLink1Description: Manufacturer URL; ComponentLink1URL: http://www.ti.com/; ComponentLink2Description: Datasheet; ComponentLink2URL: http://www.ti.com/lit/ds/symlink/sn74lv393a.pdf; ComponentLink3Description: Package Specification; ComponentLink3URL: http://www.ti.com/lit/ml/mpds006c/mpds006c.pdf
footprint DGV0014A_N (SOP, 14-Leads, Body 4.5x3.7mm, Pitch 0.4mm, IPC Medium Density)
footprint DGV0014A_M (SOP, 14-Leads, Body 4.5x3.7mm, Pitch 0.4mm, IPC Low Density)
footprint DGV0014A_L (SOP, 14-Leads, Body 4.5x3.7mm, Pitch 0.4mm, IPC High Density)
part A pins: 1 1~{CLK} (in), 2 1CLR (in), 3 1QA (out), 4 1QB (out), 5 1QC (out), 6 1QD (out)
part B pins: 8 2QD (out), 9 2QC (out), 10 2QB (out), 11 2QA (out), 12 2CLR (in), 13 2~{CLK} (in)
part C pins: 7 GND (power), 14 VCC (power)

## SN74LV393ADR
designator U?
Dual 4-Bit Binary Counters, D0014A, LARGE T&R; Generic Part Number: SN74LV393A; Manufacturer: Texas Instruments; PartNumber: SN74LV393ADR; VCC(Min)(V): 2; VCC(Max)(V): 5.5; Output Type: CMOS; Inputs: 1; ICC @ Nom Voltage(Max)(mA): 0.02; Bits(#): 4; F @ Nom Voltage(Max)(Mhz): 65,105; Rating: Catalog; Technology Family: LV-A; Voltage(Nom)(V): 2.5,3.3,5; Schmitt Trigger: No; Output Drive (IOL/IOH)(Max)(mA): 12/-12; tpd @ Nom Voltage(Max)(ns): 16.5; DatasheetVersion: SCLS457D; PackageReference: D0014A; Supplier 1: Mouser; Supplier Part Number 1: 595-SN74LV393ADR; Supplier 2: Digi-Key; Supplier Part Number 2: 296-11664-2-ND; Supplier 3: Digi-Key; Supplier Part Number 3: 296-11664-1-ND; Supplier 4: Digi-Key; Supplier Part Number 4: 296-11664-6-ND; Function: Counter; Input Type: CMOS; Operating Temperature Range(C): -40 to 85; Type: Binary; Code_JEDEC: MS-012; ComponentLink1Description: Manufacturer URL; ComponentLink1URL: http://www.ti.com/; ComponentLink2Description: Datasheet; ComponentLink2URL: http://www.ti.com/lit/ds/symlink/sn74lv393a.pdf; ComponentLink3Description: Package Specification; ComponentLink3URL: http://www.ti.com/lit/ml/mpds177g/mpds177g.pdf
footprint D0014A_N (SOIC, 14-Leads, Body 8.75x4mm, Pitch 1.27mm, IPC Medium Density)
footprint D0014A_M (SOIC, 14-Leads, Body 8.75x4mm, Pitch 1.27mm, IPC Low Density)
footprint D0014A_L (SOIC, 14-Leads, Body 8.75x4mm, Pitch 1.27mm, IPC High Density)
part A pins: 1 1~{CLK} (in), 2 1CLR (in), 3 1QA (out), 4 1QB (out), 5 1QC (out), 6 1QD (out)
part B pins: 8 2QD (out), 9 2QC (out), 10 2QB (out), 11 2QA (out), 12 2CLR (in), 13 2~{CLK} (in)
part C pins: 7 GND (power), 14 VCC (power)

## SN74LV393ANSR
designator U?
Dual 4-Bit Binary Counters, NS0014A, LARGE T&R; Generic Part Number: SN74LV393A; Manufacturer: Texas Instruments; PartNumber: SN74LV393ANSR; VCC(Min)(V): 2; VCC(Max)(V): 5.5; Output Type: CMOS; Inputs: 1; ICC @ Nom Voltage(Max)(mA): 0.02; Bits(#): 4; F @ Nom Voltage(Max)(Mhz): 65,105; Rating: Catalog; Technology Family: LV-A; Voltage(Nom)(V): 2.5,3.3,5; Schmitt Trigger: No; Output Drive (IOL/IOH)(Max)(mA): 12/-12; tpd @ Nom Voltage(Max)(ns): 16.5; DatasheetVersion: SCLS457D; PackageReference: NS0014A; Supplier 1: Mouser; Supplier Part Number 1: 595-SN74LV393ANSR; Supplier 2: Digi-Key; Supplier Part Number 2: 296-14192-2-ND; Supplier 3: Digi-Key; Supplier Part Number 3: 296-14192-1-ND; Supplier 4: Digi-Key; Supplier Part Number 4: 296-14192-6-ND; Function: Counter; Input Type: CMOS; Operating Temperature Range(C): -40 to 85; Type: Binary; ComponentLink1Description: Manufacturer URL; ComponentLink1URL: http://www.ti.com/; ComponentLink2Description: Datasheet; ComponentLink2URL: http://www.ti.com/lit/ds/symlink/sn74lv393a.pdf; ComponentLink3Description: Package Specification; ComponentLink3URL: http://www.ti.com/lit/ml/msop002a/msop002a.pdf
footprint NS0014A_N (SOIC,14-Leads,Body 10.5x5.6mm,Pitch 1.27mm,IPC Medium Density)
footprint NS0014A_M (SOIC,14-Leads,Body 10.5x5.6mm,Pitch 1.27mm,IPC Low Density)
footprint NS0014A_L (SOIC,14-Leads,Body 10.5x5.6mm,Pitch 0.4mm,IPC High Density)
part A pins: 1 1~{CLK} (in), 2 1CLR (in), 3 1QA (out), 4 1QB (out), 5 1QC (out), 6 1QD (out)
part B pins: 8 2QD (out), 9 2QC (out), 10 2QB (out), 11 2QA (out), 12 2CLR (in), 13 2~{CLK} (in)
part C pins: 7 GND (power), 14 VCC (power)

## SN74LV393APW
designator U?
Dual 4-Bit Binary Counters, PW0014A, TUBE; Generic Part Number: SN74LV393A; Manufacturer: Texas Instruments; PartNumber: SN74LV393APW; VCC(Min)(V): 2; VCC(Max)(V): 5.5; Output Type: CMOS; Inputs: 1; ICC @ Nom Voltage(Max)(mA): 0.02; Bits(#): 4; F @ Nom Voltage(Max)(Mhz): 65,105; Rating: Catalog; Technology Family: LV-A; Voltage(Nom)(V): 2.5,3.3,5; Schmitt Trigger: No; Output Drive (IOL/IOH)(Max)(mA): 12/-12; tpd @ Nom Voltage(Max)(ns): 16.5; DatasheetVersion: SCLS457D; PackageReference: PW0014A; Supplier 1: Mouser; Supplier Part Number 1: 595-SN74LV393APW; Supplier 2: Digi-Key; Supplier Part Number 2: 296-26553-5-ND; Function: Counter; Input Type: CMOS; Operating Temperature Range(C): -40 to 85; Type: Binary; Code_JEDEC: MO-153; ComponentLink1Description: Manufacturer URL; ComponentLink1URL: http://www.ti.com/; ComponentLink2Description: Datasheet; ComponentLink2URL: http://www.ti.com/lit/ds/symlink/sn74lv393a.pdf; ComponentLink3Description: Package Specification; ComponentLink3URL: http://www.ti.com/lit/ml/mpds360/mpds360.pdf
footprint PW0014A_N (SOP, 14-Leads, Body 5.1x4.5mm, Pitch 0.65mm, IPC Medium Density)
footprint PW0014A_M (SOP, 14-Leads, Body 5.1x4.5mm, Pitch 0.65mm, IPC Low Density)
footprint PW0014A_L (SOP, 14-Leads, Body 5.1x4.5mm, Pitch 0.65mm, IPC High Density)
part A pins: 1 1~{CLK} (in), 2 1CLR (in), 3 1QA (out), 4 1QB (out), 5 1QC (out), 6 1QD (out)
part B pins: 8 2QD (out), 9 2QC (out), 10 2QB (out), 11 2QA (out), 12 2CLR (in), 13 2~{CLK} (in)
part C pins: 7 GND (power), 14 VCC (power)

## SN74LV393APWR
designator U?
Dual 4-Bit Binary Counters, PW0014A, LARGE T&R; Generic Part Number: SN74LV393A; Manufacturer: Texas Instruments; PartNumber: SN74LV393APWR; VCC(Min)(V): 2; VCC(Max)(V): 5.5; Output Type: CMOS; Inputs: 1; ICC @ Nom Voltage(Max)(mA): 0.02; Bits(#): 4; F @ Nom Voltage(Max)(Mhz): 65,105; Rating: Catalog; Technology Family: LV-A; Voltage(Nom)(V): 2.5,3.3,5; Schmitt Trigger: No; Output Drive (IOL/IOH)(Max)(mA): 12/-12; tpd @ Nom Voltage(Max)(ns): 16.5; DatasheetVersion: SCLS457D; PackageReference: PW0014A; Supplier 1: Mouser; Supplier Part Number 1: 595-SN74LV393APWR; Supplier 2: Digi-Key; Supplier Part Number 2: 296-11643-2-ND; Supplier 3: Digi-Key; Supplier Part Number 3: 296-11643-1-ND; Supplier 4: Digi-Key; Supplier Part Number 4: 296-11643-6-ND; Function: Counter; Input Type: CMOS; Operating Temperature Range(C): -40 to 85; Type: Binary; Code_JEDEC: MO-153; ComponentLink1Description: Manufacturer URL; ComponentLink1URL: http://www.ti.com/; ComponentLink2Description: Datasheet; ComponentLink2URL: http://www.ti.com/lit/ds/symlink/sn74lv393a.pdf; ComponentLink3Description: Package Specification; ComponentLink3URL: http://www.ti.com/lit/ml/mpds360/mpds360.pdf
footprint PW0014A_N (SOP, 14-Leads, Body 5.1x4.5mm, Pitch 0.65mm, IPC Medium Density)
footprint PW0014A_M (SOP, 14-Leads, Body 5.1x4.5mm, Pitch 0.65mm, IPC Low Density)
footprint PW0014A_L (SOP, 14-Leads, Body 5.1x4.5mm, Pitch 0.65mm, IPC High Density)
part A pins: 1 1~{CLK} (in), 2 1CLR (in), 3 1QA (out), 4 1QB (out), 5 1QC (out), 6 1QD (out)
part B pins: 8 2QD (out), 9 2QC (out), 10 2QB (out), 11 2QA (out), 12 2CLR (in), 13 2~{CLK} (in)
part C pins: 7 GND (power), 14 VCC (power)